# EAGLE library part LTC2875 (library pi3_hat)
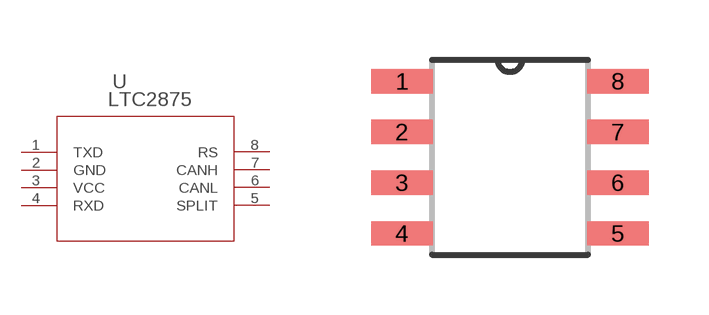
[diagram p11: symbol with the pads of SOIC8; footprint SOIC8]

Designator prefix -

## LTC2875  [SOIC8]
1  TXD  in
2  GND  pwr
3  VCC  pwr
4  RXD  out
5  SPLIT  in
6  CANL
7  CANH
8  RS  in

## Footprint SOIC8 (pad centres in mm)
smd 1.549 x 0.61: 1 -2.7,1.905; 2 -2.7,0.635; 3 -2.7,-0.635; 4 -2.7,-1.905; 5 2.7,-1.905; 6 2.7,-0.635; 7 2.7,0.635; 8 2.7,1.905